# Altium integrated library Dallas Peripheral Memory Controller.IntLib: 58 symbols (part 1 of 2)
Pins are listed as number, name and electrical type; pins without a type are passive.

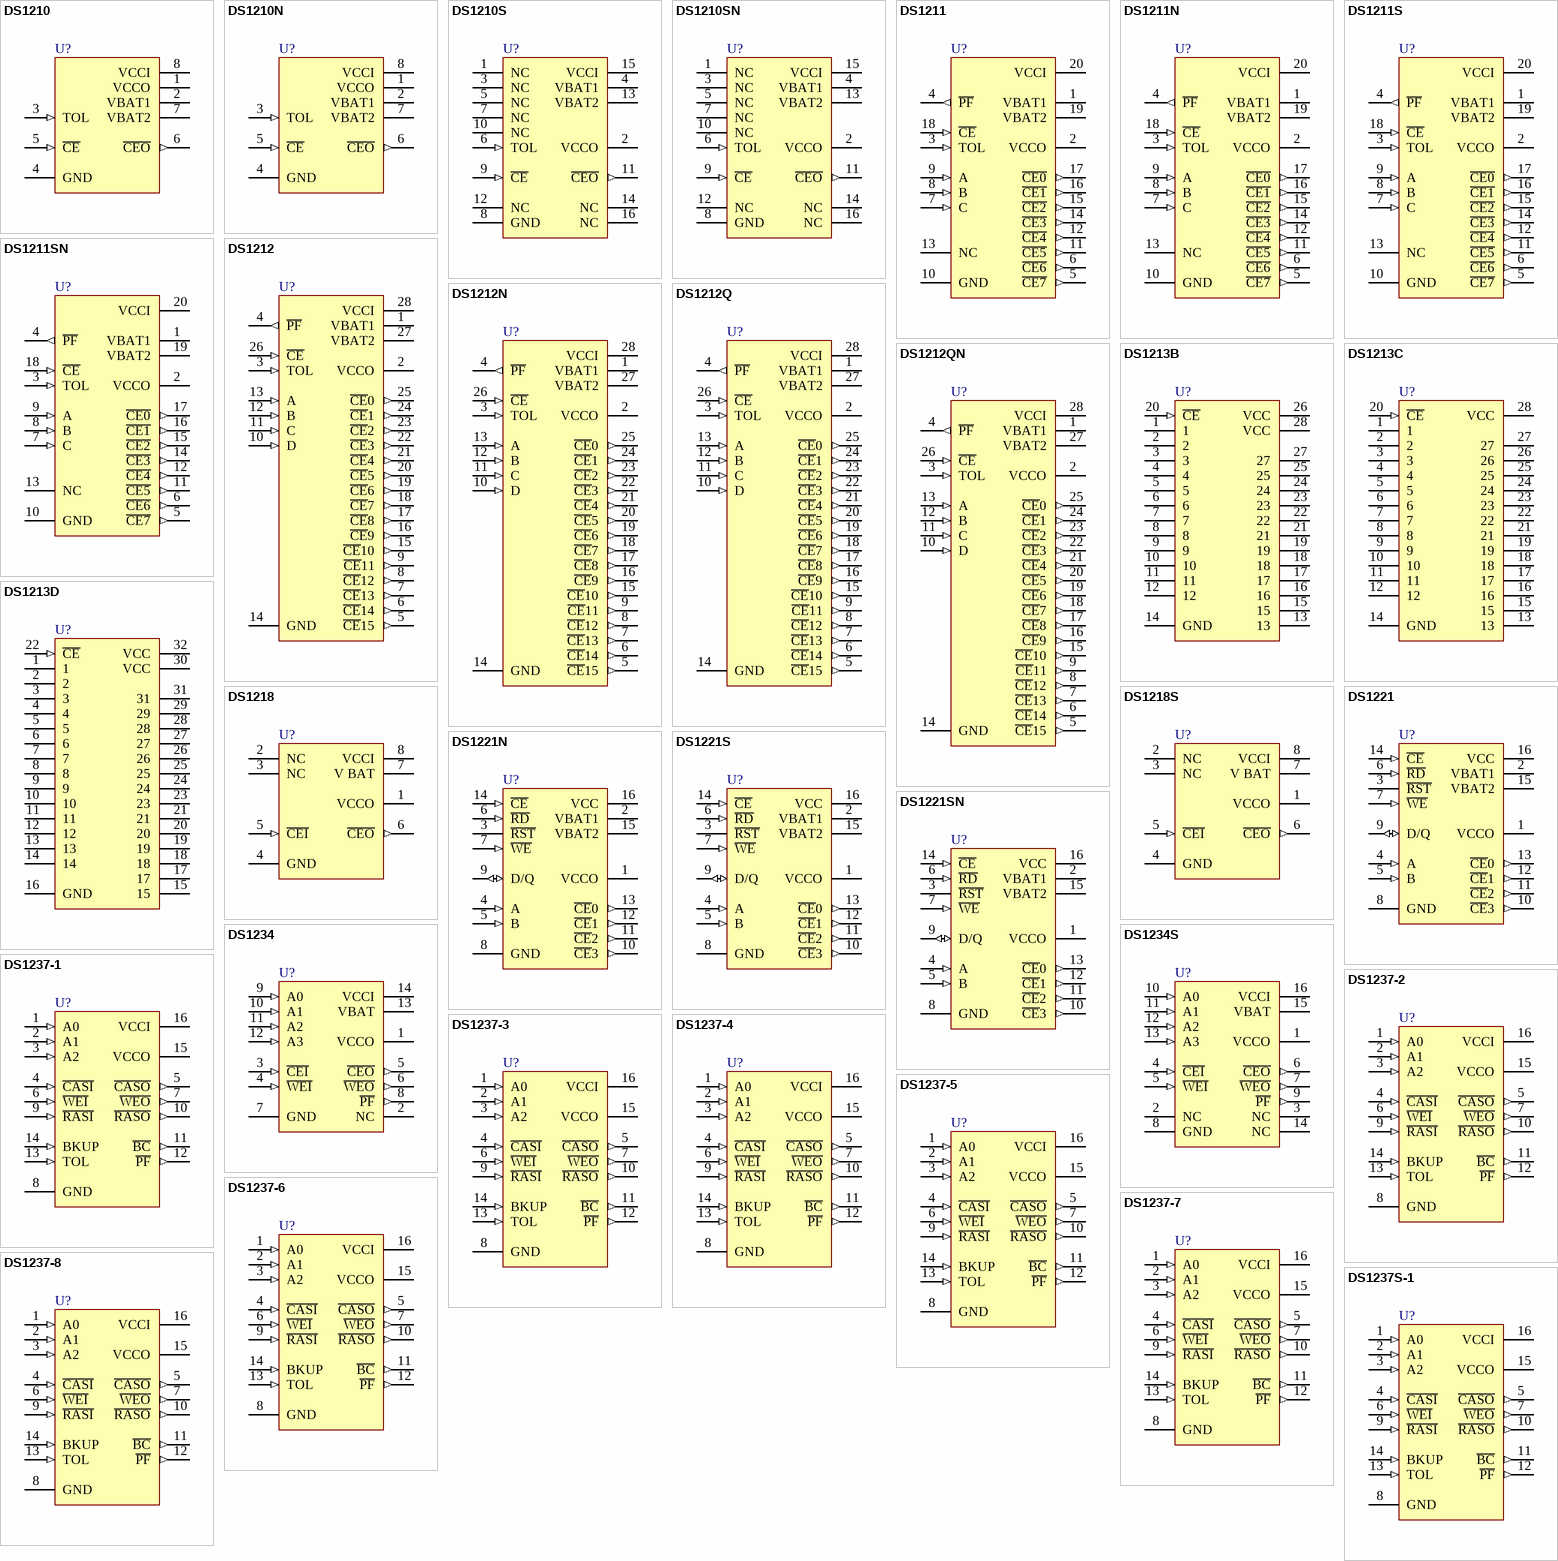
[diagram p0: symbols DS1210 to DS1237S-1]

## DS1210
designator U?
Nonvolatile Controller Chip; Published: 13-Oct-2000; LatestRevisionDate: 17-Jul-2002; LatestRevisionNote: Re-released for DXP Platform.; DatasheetVersion: 17-Feb-1998; PackageVersion: 1999; PackageReference: DIP8; Publisher: Altium Limited; PackageDescription: DIP, 8-Pin, Row Spacing 7.62 mm, Pitch 2.54 mm; ComponentLink1Description: Manufacturer Link; ComponentLink1URL: http://www.maxim-ic.com/; ComponentLink2Description: Datasheet; ComponentLink2URL: http://pdfserv.maxim-ic.com/en/ds/DS1210.pdf
footprint DIP8 (DIP, 8-Leads, Row Spacing 7.62mm, Pitch 2.54mm, Body 9.65x6.35mm)
pins: 1 VCCO (power), 2 VBAT1 (power), 3 TOL (in), 4 GND (power), 5 ~{CE} (in), 6 ~{CEO} (out), 7 VBAT2 (power), 8 VCCI (power)

## DS1210N
designator U?
Nonvolatile Controller Chip; Published: 13-Oct-2000; LatestRevisionDate: 17-Jul-2002; LatestRevisionNote: Re-released for DXP Platform.; DatasheetVersion: 17-Feb-1998; PackageVersion: 1999; PackageReference: DIP8; Publisher: Altium Limited; PackageDescription: DIP, 8-Pin, Row Spacing 7.62 mm, Pitch 2.54 mm; ComponentLink1Description: Manufacturer Link; ComponentLink1URL: http://www.maxim-ic.com/; ComponentLink2Description: Datasheet; ComponentLink2URL: http://pdfserv.maxim-ic.com/en/ds/DS1210.pdf
footprint DIP8 (DIP, 8-Leads, Row Spacing 7.62mm, Pitch 2.54mm, Body 9.65x6.35mm)
pins: 1 VCCO (power), 2 VBAT1 (power), 3 TOL (in), 4 GND (power), 5 ~{CE} (in), 6 ~{CEO} (out), 7 VBAT2 (power), 8 VCCI (power)

## DS1210S
designator U?
Nonvolatile Controller Chip; Note: Pin numbers 1, 3, 5, 7, 10, 12, 14 and 16 are Not Connected (NC); Published: 13-Oct-2000; LatestRevisionDate: 13-Apr-2006; LatestRevisionNote: IPC-7351 Footprint Added.; DatasheetVersion: 17-Feb-1998; PackageVersion: 1999; PackageReference: SOIC16W; Publisher: Altium Limited; PackageDescription: 16-Pin Small Outline Integrated Circuit 1.27 mm Pitch; ComponentLink1Description: Manufacturer Link; ComponentLink1URL: http://www.maxim-ic.com/; ComponentLink2Description: Datasheet; ComponentLink2URL: http://pdfserv.maxim-ic.com/en/ds/DS1210.pdf
footprint SOIC16W_N (SOIC, 16-Leads, Body 10.3x7.5mm, Pitch 1.27mm, IPC Medium Density)
footprint SOIC16W_L (SOIC, 16-Leads, Body 10.3x7.5mm, Pitch 1.27mm, IPC High Density)
footprint SOIC16W_M (SOIC, 16-Leads, Body 10.3x7.5mm, Pitch 1.27mm, IPC Low Density)
pins: 1 NC, 2 VCCO (power), 3 NC, 4 VBAT1 (power), 5 NC, 6 TOL (in), 7 NC, 8 GND (power), 9 ~{CE} (in), 10 NC, 11 ~{CEO} (out), 12 NC, 13 VBAT2 (power), 14 NC, 15 VCCI (power), 16 NC

## DS1210SN
designator U?
Nonvolatile Controller Chip; Note: Pin numbers 1, 3, 5, 7, 10, 12, 14 and 16 are Not Connected (NC); Published: 13-Oct-2000; LatestRevisionDate: 13-Apr-2006; LatestRevisionNote: IPC-7351 Footprint Added.; DatasheetVersion: 17-Feb-1998; PackageVersion: 1999; PackageReference: SOIC16W; Publisher: Altium Limited; PackageDescription: 16-Pin Small Outline Integrated Circuit 1.27 mm Pitch; ComponentLink1Description: Manufacturer Link; ComponentLink1URL: http://www.maxim-ic.com/; ComponentLink2Description: Datasheet; ComponentLink2URL: http://pdfserv.maxim-ic.com/en/ds/DS1210.pdf
footprint SOIC16W_N (SOIC, 16-Leads, Body 10.3x7.5mm, Pitch 1.27mm, IPC Medium Density)
footprint SOIC16W_L (SOIC, 16-Leads, Body 10.3x7.5mm, Pitch 1.27mm, IPC High Density)
footprint SOIC16W_M (SOIC, 16-Leads, Body 10.3x7.5mm, Pitch 1.27mm, IPC Low Density)
pins: 1 NC, 2 VCCO (power), 3 NC, 4 VBAT1 (power), 5 NC, 6 TOL (in), 7 NC, 8 GND (power), 9 ~{CE} (in), 10 NC, 11 ~{CEO} (out), 12 NC, 13 VBAT2 (power), 14 NC, 15 VCCI (power), 16 NC

## DS1211
designator U?
Nonvolatile Controller x 8 Chip; Note: Pin number 13 is Not Connected (NC); Published: 13-Oct-2000; LatestRevisionDate: 17-Jul-2002; LatestRevisionNote: Re-released for DXP Platform.; DatasheetVersion: 17-Feb-1998; PackageVersion: 1999; PackageReference: DIP20; Publisher: Altium Limited; PackageDescription: DIP, 20-Pin, Row Spacing 7.62 mm, Pitch 2.54 mm; Code_JEDEC: MS-001-AD; ComponentLink1Description: Manufacturer Link; ComponentLink1URL: http://www.maxim-ic.com/; ComponentLink2Description: Datasheet; ComponentLink2URL: http://pdfserv.maxim-ic.com/en/ds/DS1211.pdf
footprint DIP20 (DIP, 20-Leads, Row Spacing 7.62mm, Pitch 2.54mm, Body 25.53x6.48mm)
pins: 1 VBAT1 (power), 2 VCCO (power), 3 TOL (in), 4 ~{PF} (out), 5 ~{CE7} (out), 6 ~{CE6} (out), 7 C (in), 8 B (in), 9 A (in), 10 GND (power), 11 ~{CE5} (out), 12 ~{CE4} (out), 13 NC, 14 ~{CE3} (out), 15 ~{CE2} (out), 16 ~{CE1} (out), 17 ~{CE0} (out), 18 ~{CE} (in), 19 VBAT2 (power), 20 VCCI (power)

## DS1211N
designator U?
Nonvolatile Controller x 8 Chip; Note: Pin number 13 is Not Connected (NC); Published: 13-Oct-2000; LatestRevisionDate: 17-Jul-2002; LatestRevisionNote: Re-released for DXP Platform.; DatasheetVersion: 17-Feb-1998; PackageVersion: 1999; PackageReference: DIP20; Publisher: Altium Limited; PackageDescription: DIP, 20-Pin, Row Spacing 7.62 mm, Pitch 2.54 mm; Code_JEDEC: MS-001-AD; ComponentLink1Description: Manufacturer Link; ComponentLink1URL: http://www.maxim-ic.com/; ComponentLink2Description: Datasheet; ComponentLink2URL: http://pdfserv.maxim-ic.com/en/ds/DS1211.pdf
footprint DIP20 (DIP, 20-Leads, Row Spacing 7.62mm, Pitch 2.54mm, Body 25.53x6.48mm)
pins: 1 VBAT1 (power), 2 VCCO (power), 3 TOL (in), 4 ~{PF} (out), 5 ~{CE7} (out), 6 ~{CE6} (out), 7 C (in), 8 B (in), 9 A (in), 10 GND (power), 11 ~{CE5} (out), 12 ~{CE4} (out), 13 NC, 14 ~{CE3} (out), 15 ~{CE2} (out), 16 ~{CE1} (out), 17 ~{CE0} (out), 18 ~{CE} (in), 19 VBAT2 (power), 20 VCCI (power)

## DS1211S
designator U?
Nonvolatile Controller x 8 Chip; Note: Pin number 13 is Not Connected (NC); Published: 13-Oct-2000; LatestRevisionDate: 13-Apr-2006; LatestRevisionNote: IPC-7351 Footprint Added.; DatasheetVersion: 17-Feb-1998; PackageVersion: 1999; PackageReference: SOIC20; Publisher: Altium Limited; PackageDescription: 20-Pin Small Outline Integrated Circuit 1.27 mm Pitch; ComponentLink1Description: Manufacturer Link; ComponentLink1URL: http://www.maxim-ic.com/; ComponentLink2Description: Datasheet; ComponentLink2URL: http://pdfserv.maxim-ic.com/en/ds/DS1211.pdf
footprint SOIC20_N (SOIC, 20-Leads, Body 12.8x7.5mm, Pitch 1.27mm, IPC Medium Density)
footprint SOIC20_L (SOIC, 20-Leads, Body 12.8x7.5mm, Pitch 1.27mm, IPC High Density)
footprint SOIC20_M (SOIC, 20-Leads, Body 12.8x7.5mm, Pitch 1.27mm, IPC Low Density)
pins: 1 VBAT1 (power), 2 VCCO (power), 3 TOL (in), 4 ~{PF} (out), 5 ~{CE7} (out), 6 ~{CE6} (out), 7 C (in), 8 B (in), 9 A (in), 10 GND (power), 11 ~{CE5} (out), 12 ~{CE4} (out), 13 NC, 14 ~{CE3} (out), 15 ~{CE2} (out), 16 ~{CE1} (out), 17 ~{CE0} (out), 18 ~{CE} (in), 19 VBAT2 (power), 20 VCCI (power)

## DS1211SN
designator U?
Nonvolatile Controller x 8 Chip; Note: Pin number 13 is Not Connected (NC); Published: 13-Oct-2000; LatestRevisionDate: 13-Apr-2006; LatestRevisionNote: IPC-7351 Footprint Added.; DatasheetVersion: 17-Feb-1998; PackageVersion: 1999; PackageReference: SOIC20; Publisher: Altium Limited; PackageDescription: 20-Pin Small Outline Integrated Circuit 1.27 mm Pitch; ComponentLink1Description: Manufacturer Link; ComponentLink1URL: http://www.maxim-ic.com/; ComponentLink2Description: Datasheet; ComponentLink2URL: http://pdfserv.maxim-ic.com/en/ds/DS1211.pdf
footprint SOIC20_N (SOIC, 20-Leads, Body 12.8x7.5mm, Pitch 1.27mm, IPC Medium Density)
footprint SOIC20_L (SOIC, 20-Leads, Body 12.8x7.5mm, Pitch 1.27mm, IPC High Density)
footprint SOIC20_M (SOIC, 20-Leads, Body 12.8x7.5mm, Pitch 1.27mm, IPC Low Density)
pins: 1 VBAT1 (power), 2 VCCO (power), 3 TOL (in), 4 ~{PF} (out), 5 ~{CE7} (out), 6 ~{CE6} (out), 7 C (in), 8 B (in), 9 A (in), 10 GND (power), 11 ~{CE5} (out), 12 ~{CE4} (out), 13 NC, 14 ~{CE3} (out), 15 ~{CE2} (out), 16 ~{CE1} (out), 17 ~{CE0} (out), 18 ~{CE} (in), 19 VBAT2 (power), 20 VCCI (power)

## DS1212
designator U?
Nonvolatile Controller x 16 Chip; Published: 13-Oct-2000; LatestRevisionDate: 17-Jul-2002; LatestRevisionNote: Re-released for DXP Platform.; DatasheetVersion: 17-Feb-1998; PackageVersion: 1999; PackageReference: DIP28W; Publisher: Altium Limited; PackageDescription: DIP, 28-Pin, Row Spacing 15.24 mm, Pitch 2.54 mm; ComponentLink1Description: Manufacturer Link; ComponentLink1URL: http://www.maxim-ic.com/; ComponentLink2Description: Datasheet; ComponentLink2URL: http://pdfserv.maxim-ic.com/en/ds/DS1212.pdf
footprint DIP28W (DIP, 28-Leads, Row Spacing 15.24mm, Pitch 2.54mm, Body 37.02x13.72mm)
pins: 1 VBAT1 (power), 2 VCCO (power), 3 TOL (in), 4 ~{PF} (out), 5 ~{CE}15 (out), 6 ~{CE}14 (out), 7 ~{CE}13 (out), 8 ~{CE}12 (out), 9 ~{CE}11 (out), 10 D (in), 11 C (in), 12 B (in), 13 A (in), 14 GND (power), 15 ~{CE}10 (out), 16 ~{CE}9 (out), 17 ~{CE}8 (out), 18 ~{CE}7 (out), 19 ~{CE}6 (out), 20 ~{CE}5 (out), 21 ~{CE}4 (out), 22 ~{CE}3 (out), 23 ~{CE}2 (out), 24 ~{CE}1 (out), 25 ~{CE}0 (out), 26 ~{CE} (in), 27 VBAT2 (power), 28 VCCI (power)

## DS1212N
designator U?
Nonvolatile Controller x 16 Chip; Published: 13-Oct-2000; LatestRevisionDate: 17-Jul-2002; LatestRevisionNote: Re-released for DXP Platform.; DatasheetVersion: 17-Feb-1998; PackageVersion: 1999; PackageReference: DIP28W; Publisher: Altium Limited; PackageDescription: DIP, 28-Pin, Row Spacing 15.24 mm, Pitch 2.54 mm; ComponentLink1Description: Manufacturer Link; ComponentLink1URL: http://www.maxim-ic.com/; ComponentLink2Description: Datasheet; ComponentLink2URL: http://pdfserv.maxim-ic.com/en/ds/DS1212.pdf
footprint DIP28W (DIP, 28-Leads, Row Spacing 15.24mm, Pitch 2.54mm, Body 37.02x13.72mm)
pins: 1 VBAT1 (power), 2 VCCO (power), 3 TOL (in), 4 ~{PF} (out), 5 ~{CE}15 (out), 6 ~{CE}14 (out), 7 ~{CE}13 (out), 8 ~{CE}12 (out), 9 ~{CE}11 (out), 10 D (in), 11 C (in), 12 B (in), 13 A (in), 14 GND (power), 15 ~{CE}10 (out), 16 ~{CE}9 (out), 17 ~{CE}8 (out), 18 ~{CE}7 (out), 19 ~{CE}6 (out), 20 ~{CE}5 (out), 21 ~{CE}4 (out), 22 ~{CE}3 (out), 23 ~{CE}2 (out), 24 ~{CE}1 (out), 25 ~{CE}0 (out), 26 ~{CE} (in), 27 VBAT2 (power), 28 VCCI (power)

## DS1212Q
designator U?
Nonvolatile Controller x 16 Chip; Published: 13-Oct-2000; LatestRevisionDate: 13-Apr-2006; LatestRevisionNote: IPC-7351 Footprint Added.; DatasheetVersion: 17-Feb-1998; PackageVersion: Rev D, Feb-2006; PackageReference: PLCC28; Publisher: Altium Limited; PackageDescription: 28-Pin Leaded Chip Carrier 1.27 mm Pitch; Code_IPC: PLCC-28; ComponentLink1Description: Manufacturer Link; ComponentLink1URL: http://www.maxim-ic.com/; ComponentLink2Description: Datasheet; ComponentLink2URL: http://pdfserv.maxim-ic.com/en/ds/DS1212.pdf
footprint PLCC28_N (Leaded Chip Carrier, 28-Leads, Body 11.5x11.5mm, Pitch 1.27mm, IPC Medium Density)
footprint PLCC28_L (Leaded Chip Carrier, 28-Leads, Body 11.5x11.5mm, Pitch 1.27mm, IPC High Density)
footprint PLCC28_M (Leaded Chip Carrier, 28-Leads, Body 11.5x11.5mm, Pitch 1.27mm, IPC Low Density)
pins: 1 VBAT1 (power), 2 VCCO (power), 3 TOL (in), 4 ~{PF} (out), 5 ~{CE}15 (out), 6 ~{CE}14 (out), 7 ~{CE}13 (out), 8 ~{CE}12 (out), 9 ~{CE}11 (out), 10 D (in), 11 C (in), 12 B (in), 13 A (in), 14 GND (power), 15 ~{CE}10 (out), 16 ~{CE}9 (out), 17 ~{CE}8 (out), 18 ~{CE}7 (out), 19 ~{CE}6 (out), 20 ~{CE}5 (out), 21 ~{CE}4 (out), 22 ~{CE}3 (out), 23 ~{CE}2 (out), 24 ~{CE}1 (out), 25 ~{CE}0 (out), 26 ~{CE} (in), 27 VBAT2 (power), 28 VCCI (power)

## DS1212QN
designator U?
Nonvolatile Controller x 16 Chip; Published: 13-Oct-2000; LatestRevisionDate: 13-Apr-2006; LatestRevisionNote: IPC-7351 Footprint Added.; DatasheetVersion: 17-Feb-1998; PackageVersion: Rev D, Feb-2006; PackageReference: PLCC28; Publisher: Altium Limited; PackageDescription: 28-Pin Leaded Chip Carrier 1.27 mm Pitch; Code_IPC: PLCC-28; ComponentLink1Description: Manufacturer Link; ComponentLink1URL: http://www.maxim-ic.com/; ComponentLink2Description: Datasheet; ComponentLink2URL: http://pdfserv.maxim-ic.com/en/ds/DS1212.pdf
footprint PLCC28_N (Leaded Chip Carrier, 28-Leads, Body 11.5x11.5mm, Pitch 1.27mm, IPC Medium Density)
footprint PLCC28_L (Leaded Chip Carrier, 28-Leads, Body 11.5x11.5mm, Pitch 1.27mm, IPC High Density)
footprint PLCC28_M (Leaded Chip Carrier, 28-Leads, Body 11.5x11.5mm, Pitch 1.27mm, IPC Low Density)
pins: 1 VBAT1 (power), 2 VCCO (power), 3 TOL (in), 4 ~{PF} (out), 5 ~{CE}15 (out), 6 ~{CE}14 (out), 7 ~{CE}13 (out), 8 ~{CE}12 (out), 9 ~{CE}11 (out), 10 D (in), 11 C (in), 12 B (in), 13 A (in), 14 GND (power), 15 ~{CE}10 (out), 16 ~{CE}9 (out), 17 ~{CE}8 (out), 18 ~{CE}7 (out), 19 ~{CE}6 (out), 20 ~{CE}5 (out), 21 ~{CE}4 (out), 22 ~{CE}3 (out), 23 ~{CE}2 (out), 24 ~{CE}1 (out), 25 ~{CE}0 (out), 26 ~{CE} (in), 27 VBAT2 (power), 28 VCCI (power)

## DS1213B
designator U?
Smart-Socket 16K/64K; Published: 13-Oct-2000; LatestRevisionDate: 17-Jul-2002; LatestRevisionNote: Re-released for DXP Platform.; DatasheetVersion: 19-Mar-1998; PackageVersion: Oct-1998; PackageReference: ISDIP28; Publisher: Altium Limited; PackageDescription: DIP; 28 Rectangular Pins; Row Space 15.24 mm; Pitch 2.54 mm; ComponentLink1Description: Manufacturer Link; ComponentLink1URL: http://www.maxim-ic.com/; ComponentLink2Description: Datasheet; ComponentLink2URL: http://pdfserv.maxim-ic.com/en/ds/DS1213B.pdf; ComponentLink3Description: Discontinuation Notice; ComponentLink3URL: http://www.maxim-ic.com/qa/pdfs/non-obsolescence-letter.pdf
footprint ISDIP28 (DIP; 28 Rectangular Pins; Row Space 15.24 mm; Pitch 2.54 mm)
pins: 1, 2, 3, 4, 5, 6, 7, 8, 9, 10, 11, 12, 13, 14 GND (power), 15, 16, 17, 18, 19, 20 ~{CE} (in), 21, 22, 23, 24, 25, 26 VCC (power), 27, 28 VCC (power)

## DS1213C
designator U?
Smart-Socket 256K; Published: 13-Oct-2000; LatestRevisionDate: 17-Jul-2002; LatestRevisionNote: Re-released for DXP Platform.; DatasheetVersion: 22-Oct-1998; PackageVersion: Oct-1998; PackageReference: ISDIP28; Publisher: Altium Limited; PackageDescription: DIP; 28 Rectangular Pins; Row Space 15.24 mm; Pitch 2.54 mm; ComponentLink1Description: Manufacturer Link; ComponentLink1URL: http://www.maxim-ic.com/; ComponentLink2Description: Datasheet; ComponentLink2URL: http://pdfserv.maxim-ic.com/en/ds/DS1213C.pdf; ComponentLink3Description: Discontinuation Notice; ComponentLink3URL: http://www.maxim-ic.com/qa/pdfs/non-obsolescence-letter.pdf
footprint ISDIP28 (DIP; 28 Rectangular Pins; Row Space 15.24 mm; Pitch 2.54 mm)
pins: 1, 2, 3, 4, 5, 6, 7, 8, 9, 10, 11, 12, 13, 14 GND (power), 15, 16, 17, 18, 19, 20 ~{CE} (in), 21, 22, 23, 24, 25, 26, 27, 28 VCC (power)

## DS1213D
designator U?
Smart-Socket 256K/1M; Published: 13-Oct-2000; LatestRevisionDate: 17-Jul-2002; LatestRevisionNote: Re-released for DXP Platform.; DatasheetVersion: 19-Mar-1998; PackageVersion: Mar-1998; PackageReference: ISDIP32; Publisher: Altium Limited; PackageDescription: DIP; 32 Rectangular Pins; Row Space 15.24 mm; Pitch 2.54 mm; ComponentLink1Description: Manufacturer Link; ComponentLink1URL: http://www.maxim-ic.com/; ComponentLink2Description: Datasheet; ComponentLink2URL: http://pdfserv.maxim-ic.com/en/ds/DS1213D.pdf; ComponentLink3Description: Discontinuation Notice; ComponentLink3URL: http://www.maxim-ic.com/qa/pdfs/non-obsolescence-letter.pdf
footprint ISDIP32 (DIP; 32 Rectangular Pins; Row Space 15.24 mm; Pitch 2.54 mm)
pins: 1, 2, 3, 4, 5, 6, 7, 8, 9, 10, 11, 12, 13, 14, 15, 16 GND (power), 17, 18, 19, 20, 21, 22 ~{CE} (in), 23, 24, 25, 26, 27, 28, 29, 30 VCC (power), 31, 32 VCC (power)

## DS1218
designator U?
Nonvolatile Controller; Note: Pin numbers 2 and 3 are Not Connected (NC); Published: 13-Oct-2000; LatestRevisionDate: 17-Jul-2002; LatestRevisionNote: Re-released for DXP Platform.; DatasheetVersion: 17-Feb-1998; PackageVersion: 1999; PackageReference: DIP8; Publisher: Altium Limited; PackageDescription: DIP, 8-Pin, Row Spacing 7.62 mm, Pitch 2.54 mm; ComponentLink1Description: Manufacturer Link; ComponentLink1URL: http://www.maxim-ic.com/; ComponentLink2Description: Datasheet; ComponentLink2URL: http://pdfserv.maxim-ic.com/en/ds/DS1218.pdf
footprint DIP8 (DIP, 8-Leads, Row Spacing 7.62mm, Pitch 2.54mm, Body 9.65x6.35mm)
pins: 1 VCCO (power), 2 NC, 3 NC, 4 GND (power), 5 ~{CEI} (in), 6 ~{CEO} (out), 7 V BAT (power), 8 VCCI (power)

## DS1218S
designator U?
Nonvolatile Controller; Note: Pin numbers 2 and 3 are Not Connected (NC); Published: 13-Oct-2000; LatestRevisionDate: 13-Apr-2006; LatestRevisionNote: IPC-7351 Footprint Added.; DatasheetVersion: 17-Feb-1998; PackageVersion: 1999; PackageReference: SOIC8N; Publisher: Altium Limited; PackageDescription: 8-Pin Small Outline Integrated Circuit 1.27 mm Pitch; Code_IPC: SOIC127P600-8; ComponentLink1Description: Manufacturer Link; ComponentLink1URL: http://www.maxim-ic.com/; ComponentLink2Description: Datasheet; ComponentLink2URL: http://pdfserv.maxim-ic.com/en/ds/DS1218.pdf
footprint SOIC8N_N (SOIC, 8-Leads, Body 4.9x3.9mm, Pitch 1.27mm, IPC Medium Density)
footprint SOIC8N_L (SOIC, 8-Leads, Body 4.9x3.9mm, Pitch 1.27mm, IPC High Density)
footprint SOIC8N_M (SOIC, 8-Leads, Body 4.9x3.9mm, Pitch 1.27mm, IPC Low Density)
pins: 1 VCCO (power), 2 NC, 3 NC, 4 GND (power), 5 ~{CEI} (in), 6 ~{CEO} (out), 7 V BAT (power), 8 VCCI (power)

## DS1221
designator U?
Nonvolatile Controller x 4 Chip; Note: Pins 3, 6, 7 and 9 are used with optional security circuit only and must be connected to GND in all other cases.; Published: 13-Oct-2000; LatestRevisionDate: 17-Jul-2002; LatestRevisionNote: Re-released for DXP Platform.; DatasheetVersion: 25-Aug-1998; PackageVersion: 1999; PackageReference: DIP16; Publisher: Altium Limited; PackageDescription: DIP, 16-Pin, Row Spacing 7.62 mm, Pitch 2.54 mm; ComponentLink1Description: Manufacturer Link; ComponentLink1URL: http://www.maxim-ic.com/; ComponentLink2Description: Datasheet; ComponentLink2URL: http://pdfserv.maxim-ic.com/en/ds/DS1221.pdf
footprint DIP16 (DIP, 16-Leads, Row Spacing 7.62mm, Pitch 2.54mm, Body 19.31x6.35mm)
pins: 1 VCCO (power), 2 VBAT1 (power), 3 ~{RST}, 4 A (in), 5 B (in), 6 ~{RD} (in), 7 ~{WE} (in), 8 GND (power), 9 D/Q (io), 10 ~{CE}3 (out), 11 ~{CE}2 (out), 12 ~{CE}1 (out), 13 ~{CE}0 (out), 14 ~{CE} (in), 15 VBAT2 (power), 16 VCC (power)

## DS1221N
designator U?
Nonvolatile Controller x 4 Chip; Note: Pins 3, 6, 7 and 9 are used with optional security circuit only and must be connected to GND in all other cases.; Published: 13-Oct-2000; LatestRevisionDate: 17-Jul-2002; LatestRevisionNote: Re-released for DXP Platform.; DatasheetVersion: 25-Aug-1998; PackageVersion: 1999; PackageReference: DIP16; Publisher: Altium Limited; PackageDescription: DIP, 16-Pin, Row Spacing 7.62 mm, Pitch 2.54 mm; ComponentLink1Description: Manufacturer Link; ComponentLink1URL: http://www.maxim-ic.com/; ComponentLink2Description: Datasheet; ComponentLink2URL: http://pdfserv.maxim-ic.com/en/ds/DS1221.pdf
footprint DIP16 (DIP, 16-Leads, Row Spacing 7.62mm, Pitch 2.54mm, Body 19.31x6.35mm)
pins: 1 VCCO (power), 2 VBAT1 (power), 3 ~{RST}, 4 A (in), 5 B (in), 6 ~{RD} (in), 7 ~{WE} (in), 8 GND (power), 9 D/Q (io), 10 ~{CE}3 (out), 11 ~{CE}2 (out), 12 ~{CE}1 (out), 13 ~{CE}0 (out), 14 ~{CE} (in), 15 VBAT2 (power), 16 VCC (power)

## DS1221S
designator U?
Nonvolatile Controller x 4 Chip; Note: Pins 3, 6, 7 and 9 are used with optional security circuit only and must be connected to GND in all other cases.; Published: 13-Oct-2000; LatestRevisionDate: 13-Apr-2006; LatestRevisionNote: IPC-7351 Footprint Added.; DatasheetVersion: 25-Aug-1998; PackageVersion: 1999; PackageReference: SOIC16W; Publisher: Altium Limited; PackageDescription: 16-Pin Small Outline Integrated Circuit 1.27 mm Pitch; ComponentLink1Description: Manufacturer Link; ComponentLink1URL: http://www.maxim-ic.com/; ComponentLink2Description: Datasheet; ComponentLink2URL: http://pdfserv.maxim-ic.com/en/ds/DS1221.pdf
footprint SOIC16W_N (SOIC, 16-Leads, Body 10.3x7.5mm, Pitch 1.27mm, IPC Medium Density)
footprint SOIC16W_L (SOIC, 16-Leads, Body 10.3x7.5mm, Pitch 1.27mm, IPC High Density)
footprint SOIC16W_M (SOIC, 16-Leads, Body 10.3x7.5mm, Pitch 1.27mm, IPC Low Density)
pins: 1 VCCO (power), 2 VBAT1 (power), 3 ~{RST}, 4 A (in), 5 B (in), 6 ~{RD} (in), 7 ~{WE} (in), 8 GND (power), 9 D/Q (io), 10 ~{CE}3 (out), 11 ~{CE}2 (out), 12 ~{CE}1 (out), 13 ~{CE}0 (out), 14 ~{CE} (in), 15 VBAT2 (power), 16 VCC (power)

## DS1221SN
designator U?
Nonvolatile Controller x 4 Chip; Note: Pins 3, 6, 7 and 9 are used with optional security circuit only and must be connected to GND in all other cases.; Published: 13-Oct-2000; LatestRevisionDate: 13-Apr-2006; LatestRevisionNote: IPC-7351 Footprint Added.; DatasheetVersion: 25-Aug-1998; PackageVersion: 1999; PackageReference: SOIC16W; Publisher: Altium Limited; PackageDescription: 16-Pin Small Outline Integrated Circuit 1.27 mm Pitch; ComponentLink1Description: Manufacturer Link; ComponentLink1URL: http://www.maxim-ic.com/; ComponentLink2Description: Datasheet; ComponentLink2URL: http://pdfserv.maxim-ic.com/en/ds/DS1221.pdf
footprint SOIC16W_N (SOIC, 16-Leads, Body 10.3x7.5mm, Pitch 1.27mm, IPC Medium Density)
footprint SOIC16W_L (SOIC, 16-Leads, Body 10.3x7.5mm, Pitch 1.27mm, IPC High Density)
footprint SOIC16W_M (SOIC, 16-Leads, Body 10.3x7.5mm, Pitch 1.27mm, IPC Low Density)
pins: 1 VCCO (power), 2 VBAT1 (power), 3 ~{RST}, 4 A (in), 5 B (in), 6 ~{RD} (in), 7 ~{WE} (in), 8 GND (power), 9 D/Q (io), 10 ~{CE}3 (out), 11 ~{CE}2 (out), 12 ~{CE}1 (out), 13 ~{CE}0 (out), 14 ~{CE} (in), 15 VBAT2 (power), 16 VCC (power)

## DS1234
designator U?
Conditional Nonvolatile Controller Chip; Note: Pin number 2 is Not Connected (NC); Published: 13-Oct-2000; LatestRevisionDate: 17-Jul-2002; LatestRevisionNote: Re-released for DXP Platform.; DatasheetVersion: 17-Feb-1998; PackageVersion: 1999; PackageReference: DIP14; Publisher: Altium Limited; PackageDescription: DIP, 14-Pin, Row Spacing 7.62 mm, Pitch 2.54 mm; ComponentLink1Description: Manufacturer Link; ComponentLink1URL: http://www.maxim-ic.com/
footprint DIP14 (DIP, 14-Leads, Row Spacing 7.62mm, Pitch 2.54mm, Body 19.31x6.35mm)
pins: 1 VCCO (power), 2 NC, 3 ~{CEI} (in), 4 ~{WEI} (in), 5 ~{CEO} (out), 6 ~{WEO} (out), 7 GND (power), 8 ~{PF} (out), 9 A0 (in), 10 A1 (in), 11 A2 (in), 12 A3 (in), 13 VBAT (power), 14 VCCI (power)

## DS1234S
designator U?
Conditional Nonvolatile Controller Chip; Note: Pin numbers 2, 3 and 14 are Not Connected (NC); Published: 13-Oct-2000; LatestRevisionDate: 13-Apr-2006; LatestRevisionNote: IPC-7351 Footprint Added.; DatasheetVersion: 17-Feb-1998; PackageVersion: 1999; PackageReference: SOIC16W; Publisher: Altium Limited; PackageDescription: 16-Pin Small Outline Integrated Circuit 1.27 mm Pitch; ComponentLink1Description: Manufacturer Link; ComponentLink1URL: http://www.maxim-ic.com/
footprint SOIC16W_N (SOIC, 16-Leads, Body 10.3x7.5mm, Pitch 1.27mm, IPC Medium Density)
footprint SOIC16W_L (SOIC, 16-Leads, Body 10.3x7.5mm, Pitch 1.27mm, IPC High Density)
footprint SOIC16W_M (SOIC, 16-Leads, Body 10.3x7.5mm, Pitch 1.27mm, IPC Low Density)
pins: 1 VCCO (power), 2 NC, 3 NC, 4 ~{CEI} (in), 5 ~{WEI} (in), 6 ~{CEO} (out), 7 ~{WEO} (out), 8 GND (power), 9 ~{PF} (out), 10 A0 (in), 11 A1 (in), 12 A2 (in), 13 A3 (in), 14 NC, 15 VBAT (power), 16 VCCI (power)

## DS1237-1
designator U?
DRAM Nonvolatizer Chip; Published: 13-Oct-2000; LatestRevisionDate: 17-Jul-2002; LatestRevisionNote: Re-released for DXP Platform.; DatasheetVersion: 23-Jan-1992; PackageVersion: 1999; PackageReference: DIP16; Publisher: Altium Limited; PackageDescription: DIP, 16-Pin, Row Spacing 7.62 mm, Pitch 2.54 mm; ComponentLink1Description: Manufacturer Link; ComponentLink1URL: http://www.maxim-ic.com/; ComponentLink2Description: Datasheet; ComponentLink2URL: http://pdfserv.maxim-ic.com/en/ds/DS1233M.pdf
footprint DIP16 (DIP, 16-Leads, Row Spacing 7.62mm, Pitch 2.54mm, Body 19.31x6.35mm)
pins: 1 A0 (in), 2 A1 (in), 3 A2 (in), 4 ~{CASI} (in), 5 ~{CASO} (out), 6 ~{WEI} (in), 7 ~{WEO} (out), 8 GND (power), 9 ~{RASI} (in), 10 ~{RASO} (out), 11 ~{BC} (out), 12 ~{PF} (out), 13 TOL (in), 14 BKUP (in), 15 VCCO (power), 16 VCCI (power)

## DS1237-2
designator U?
DRAM Nonvolatizer Chip; Published: 13-Oct-2000; LatestRevisionDate: 17-Jul-2002; LatestRevisionNote: Re-released for DXP Platform.; DatasheetVersion: 23-Jan-1992; PackageVersion: 1999; PackageReference: DIP16; Publisher: Altium Limited; PackageDescription: DIP, 16-Pin, Row Spacing 7.62 mm, Pitch 2.54 mm; ComponentLink1Description: Manufacturer Link; ComponentLink1URL: http://www.maxim-ic.com/; ComponentLink2Description: Datasheet; ComponentLink2URL: http://pdfserv.maxim-ic.com/en/ds/DS1233M.pdf
footprint DIP16 (DIP, 16-Leads, Row Spacing 7.62mm, Pitch 2.54mm, Body 19.31x6.35mm)
pins: 1 A0 (in), 2 A1 (in), 3 A2 (in), 4 ~{CASI} (in), 5 ~{CASO} (out), 6 ~{WEI} (in), 7 ~{WEO} (out), 8 GND (power), 9 ~{RASI} (in), 10 ~{RASO} (out), 11 ~{BC} (out), 12 ~{PF} (out), 13 TOL (in), 14 BKUP (in), 15 VCCO (power), 16 VCCI (power)

## DS1237-3
designator U?
DRAM Nonvolatizer Chip; Published: 13-Oct-2000; LatestRevisionDate: 17-Jul-2002; LatestRevisionNote: Re-released for DXP Platform.; DatasheetVersion: 23-Jan-1992; PackageVersion: 1999; PackageReference: DIP16; Publisher: Altium Limited; PackageDescription: DIP, 16-Pin, Row Spacing 7.62 mm, Pitch 2.54 mm; ComponentLink1Description: Manufacturer Link; ComponentLink1URL: http://www.maxim-ic.com/; ComponentLink2Description: Datasheet; ComponentLink2URL: http://pdfserv.maxim-ic.com/en/ds/DS1233M.pdf
footprint DIP16 (DIP, 16-Leads, Row Spacing 7.62mm, Pitch 2.54mm, Body 19.31x6.35mm)
pins: 1 A0 (in), 2 A1 (in), 3 A2 (in), 4 ~{CASI} (in), 5 ~{CASO} (out), 6 ~{WEI} (in), 7 ~{WEO} (out), 8 GND (power), 9 ~{RASI} (in), 10 ~{RASO} (out), 11 ~{BC} (out), 12 ~{PF} (out), 13 TOL (in), 14 BKUP (in), 15 VCCO (power), 16 VCCI (power)

## DS1237-4
designator U?
DRAM Nonvolatizer Chip; Published: 13-Oct-2000; LatestRevisionDate: 17-Jul-2002; LatestRevisionNote: Re-released for DXP Platform.; DatasheetVersion: 23-Jan-1992; PackageVersion: 1999; PackageReference: DIP16; Publisher: Altium Limited; PackageDescription: DIP, 16-Pin, Row Spacing 7.62 mm, Pitch 2.54 mm; ComponentLink1Description: Manufacturer Link; ComponentLink1URL: http://www.maxim-ic.com/; ComponentLink2Description: Datasheet; ComponentLink2URL: http://pdfserv.maxim-ic.com/en/ds/DS1233M.pdf
footprint DIP16 (DIP, 16-Leads, Row Spacing 7.62mm, Pitch 2.54mm, Body 19.31x6.35mm)
pins: 1 A0 (in), 2 A1 (in), 3 A2 (in), 4 ~{CASI} (in), 5 ~{CASO} (out), 6 ~{WEI} (in), 7 ~{WEO} (out), 8 GND (power), 9 ~{RASI} (in), 10 ~{RASO} (out), 11 ~{BC} (out), 12 ~{PF} (out), 13 TOL (in), 14 BKUP (in), 15 VCCO (power), 16 VCCI (power)

## DS1237-5
designator U?
DRAM Nonvolatizer Chip; Published: 13-Oct-2000; LatestRevisionDate: 17-Jul-2002; LatestRevisionNote: Re-released for DXP Platform.; DatasheetVersion: 23-Jan-1992; PackageVersion: 1999; PackageReference: DIP16; Publisher: Altium Limited; PackageDescription: DIP, 16-Pin, Row Spacing 7.62 mm, Pitch 2.54 mm; ComponentLink1Description: Manufacturer Link; ComponentLink1URL: http://www.maxim-ic.com/; ComponentLink2Description: Datasheet; ComponentLink2URL: http://pdfserv.maxim-ic.com/en/ds/DS1233M.pdf
footprint DIP16 (DIP, 16-Leads, Row Spacing 7.62mm, Pitch 2.54mm, Body 19.31x6.35mm)
pins: 1 A0 (in), 2 A1 (in), 3 A2 (in), 4 ~{CASI} (in), 5 ~{CASO} (out), 6 ~{WEI} (in), 7 ~{WEO} (out), 8 GND (power), 9 ~{RASI} (in), 10 ~{RASO} (out), 11 ~{BC} (out), 12 ~{PF} (out), 13 TOL (in), 14 BKUP (in), 15 VCCO (power), 16 VCCI (power)

## DS1237-6
designator U?
DRAM Nonvolatizer Chip; Published: 13-Oct-2000; LatestRevisionDate: 17-Jul-2002; LatestRevisionNote: Re-released for DXP Platform.; DatasheetVersion: 23-Jan-1992; PackageVersion: 1999; PackageReference: DIP16; Publisher: Altium Limited; PackageDescription: DIP, 16-Pin, Row Spacing 7.62 mm, Pitch 2.54 mm; ComponentLink1Description: Manufacturer Link; ComponentLink1URL: http://www.maxim-ic.com/; ComponentLink2Description: Datasheet; ComponentLink2URL: http://pdfserv.maxim-ic.com/en/ds/DS1233M.pdf
footprint DIP16 (DIP, 16-Leads, Row Spacing 7.62mm, Pitch 2.54mm, Body 19.31x6.35mm)
pins: 1 A0 (in), 2 A1 (in), 3 A2 (in), 4 ~{CASI} (in), 5 ~{CASO} (out), 6 ~{WEI} (in), 7 ~{WEO} (out), 8 GND (power), 9 ~{RASI} (in), 10 ~{RASO} (out), 11 ~{BC} (out), 12 ~{PF} (out), 13 TOL (in), 14 BKUP (in), 15 VCCO (power), 16 VCCI (power)

## DS1237-7
designator U?
DRAM Nonvolatizer Chip; Published: 13-Oct-2000; LatestRevisionDate: 17-Jul-2002; LatestRevisionNote: Re-released for DXP Platform.; DatasheetVersion: 23-Jan-1992; PackageVersion: 1999; PackageReference: DIP16; Publisher: Altium Limited; PackageDescription: DIP, 16-Pin, Row Spacing 7.62 mm, Pitch 2.54 mm; ComponentLink1Description: Manufacturer Link; ComponentLink1URL: http://www.maxim-ic.com/; ComponentLink2Description: Datasheet; ComponentLink2URL: http://pdfserv.maxim-ic.com/en/ds/DS1233M.pdf
footprint DIP16 (DIP, 16-Leads, Row Spacing 7.62mm, Pitch 2.54mm, Body 19.31x6.35mm)
pins: 1 A0 (in), 2 A1 (in), 3 A2 (in), 4 ~{CASI} (in), 5 ~{CASO} (out), 6 ~{WEI} (in), 7 ~{WEO} (out), 8 GND (power), 9 ~{RASI} (in), 10 ~{RASO} (out), 11 ~{BC} (out), 12 ~{PF} (out), 13 TOL (in), 14 BKUP (in), 15 VCCO (power), 16 VCCI (power)

## DS1237-8
designator U?
DRAM Nonvolatizer Chip; Published: 13-Oct-2000; LatestRevisionDate: 17-Jul-2002; LatestRevisionNote: Re-released for DXP Platform.; DatasheetVersion: 23-Jan-1992; PackageVersion: 1999; PackageReference: DIP16; Publisher: Altium Limited; PackageDescription: DIP, 16-Pin, Row Spacing 7.62 mm, Pitch 2.54 mm; ComponentLink1Description: Manufacturer Link; ComponentLink1URL: http://www.maxim-ic.com/; ComponentLink2Description: Datasheet; ComponentLink2URL: http://pdfserv.maxim-ic.com/en/ds/DS1233M.pdf
footprint DIP16 (DIP, 16-Leads, Row Spacing 7.62mm, Pitch 2.54mm, Body 19.31x6.35mm)
pins: 1 A0 (in), 2 A1 (in), 3 A2 (in), 4 ~{CASI} (in), 5 ~{CASO} (out), 6 ~{WEI} (in), 7 ~{WEO} (out), 8 GND (power), 9 ~{RASI} (in), 10 ~{RASO} (out), 11 ~{BC} (out), 12 ~{PF} (out), 13 TOL (in), 14 BKUP (in), 15 VCCO (power), 16 VCCI (power)

## DS1237S-1
designator U?
DRAM Nonvolatizer Chip; Published: 13-Oct-2000; LatestRevisionDate: 13-Apr-2006; LatestRevisionNote: IPC-7351 Footprint Added.; DatasheetVersion: 23-Jan-1992; PackageVersion: 1999; PackageReference: SOIC16W; Publisher: Altium Limited; PackageDescription: 16-Pin Small Outline Integrated Circuit 1.27 mm Pitch; ComponentLink1Description: Manufacturer Link; ComponentLink1URL: http://www.maxim-ic.com/; ComponentLink2Description: Datasheet; ComponentLink2URL: http://pdfserv.maxim-ic.com/en/ds/DS1233M.pdf
footprint SOIC16W_N (SOIC, 16-Leads, Body 10.3x7.5mm, Pitch 1.27mm, IPC Medium Density)
footprint SOIC16W_L (SOIC, 16-Leads, Body 10.3x7.5mm, Pitch 1.27mm, IPC High Density)
footprint SOIC16W_M (SOIC, 16-Leads, Body 10.3x7.5mm, Pitch 1.27mm, IPC Low Density)
pins: 1 A0 (in), 2 A1 (in), 3 A2 (in), 4 ~{CASI} (in), 5 ~{CASO} (out), 6 ~{WEI} (in), 7 ~{WEO} (out), 8 GND (power), 9 ~{RASI} (in), 10 ~{RASO} (out), 11 ~{BC} (out), 12 ~{PF} (out), 13 TOL (in), 14 BKUP (in), 15 VCCO (power), 16 VCCI (power)

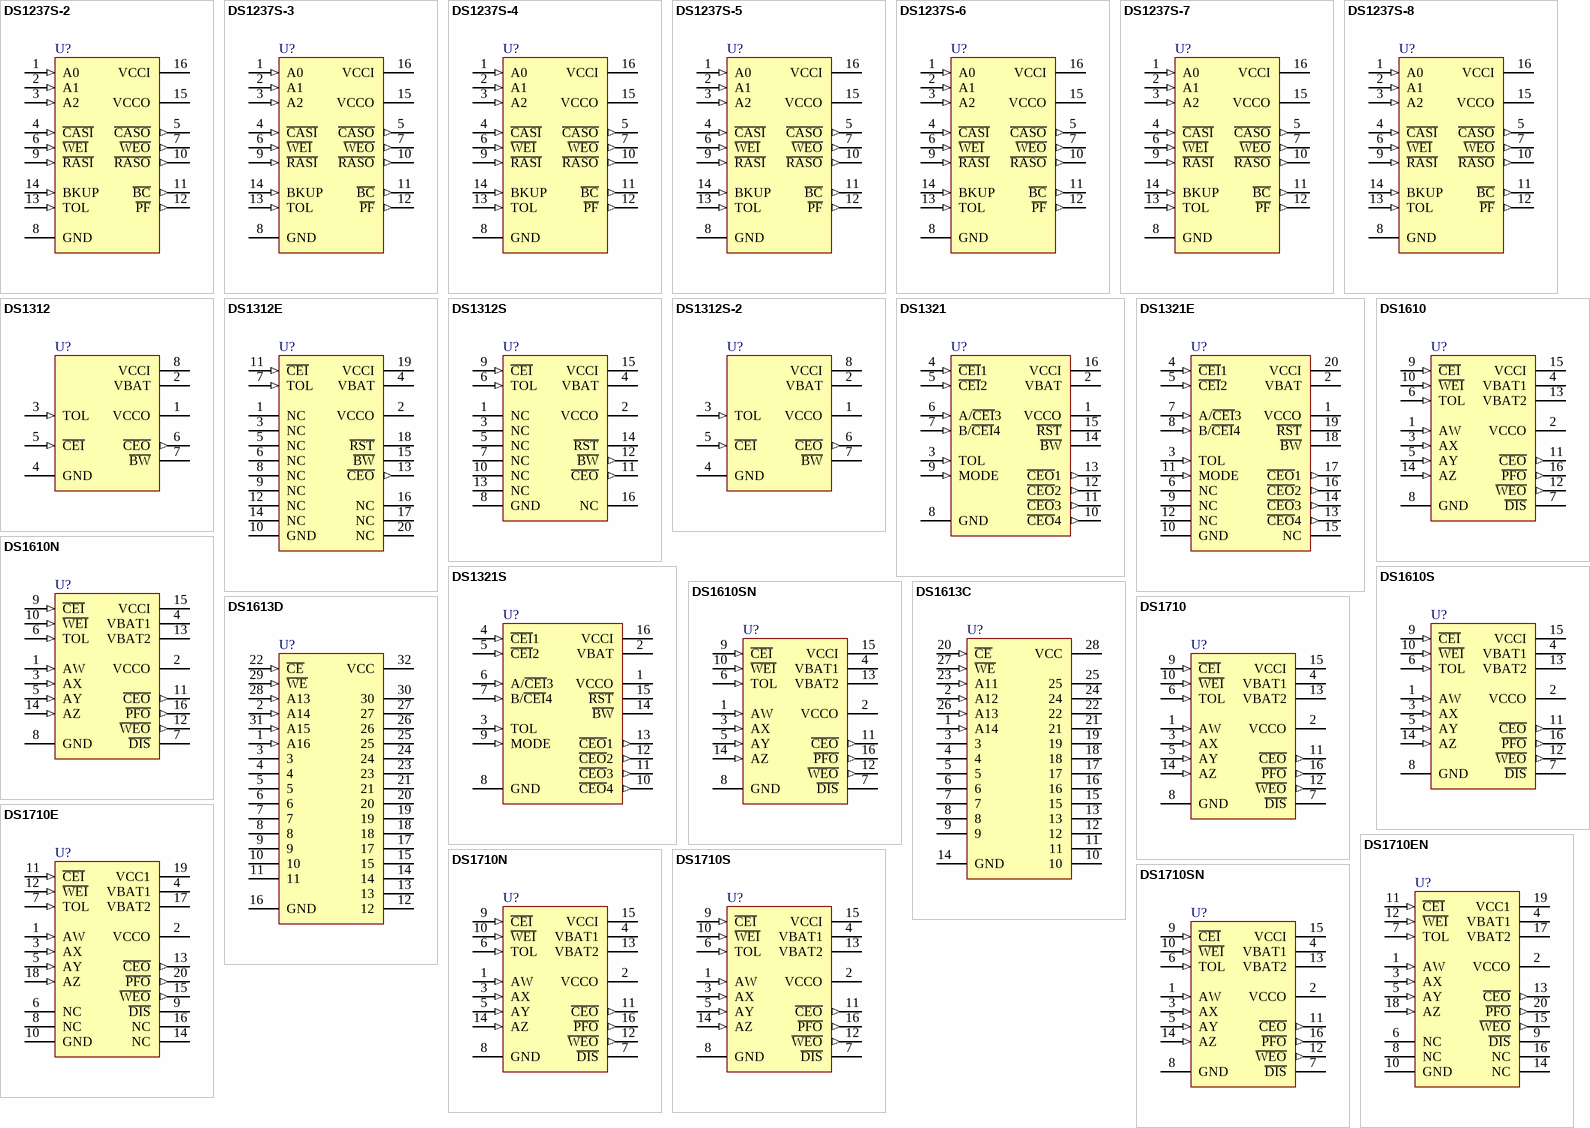
[diagram p1: symbols DS1237S-2 to DS1710SN]

## DS1237S-2
designator U?
DRAM Nonvolatizer Chip; Published: 13-Oct-2000; LatestRevisionDate: 13-Apr-2006; LatestRevisionNote: IPC-7351 Footprint Added.; DatasheetVersion: 23-Jan-1992; PackageVersion: 1999; PackageReference: SOIC16W; Publisher: Altium Limited; PackageDescription: 16-Pin Small Outline Integrated Circuit 1.27 mm Pitch; ComponentLink1Description: Manufacturer Link; ComponentLink1URL: http://www.maxim-ic.com/; ComponentLink2Description: Datasheet; ComponentLink2URL: http://pdfserv.maxim-ic.com/en/ds/DS1233M.pdf
footprint SOIC16W_N (SOIC, 16-Leads, Body 10.3x7.5mm, Pitch 1.27mm, IPC Medium Density)
footprint SOIC16W_L (SOIC, 16-Leads, Body 10.3x7.5mm, Pitch 1.27mm, IPC High Density)
footprint SOIC16W_M (SOIC, 16-Leads, Body 10.3x7.5mm, Pitch 1.27mm, IPC Low Density)
pins: 1 A0 (in), 2 A1 (in), 3 A2 (in), 4 ~{CASI} (in), 5 ~{CASO} (out), 6 ~{WEI} (in), 7 ~{WEO} (out), 8 GND (power), 9 ~{RASI} (in), 10 ~{RASO} (out), 11 ~{BC} (out), 12 ~{PF} (out), 13 TOL (in), 14 BKUP (in), 15 VCCO (power), 16 VCCI (power)

## DS1237S-3
designator U?
DRAM Nonvolatizer Chip; Published: 13-Oct-2000; LatestRevisionDate: 13-Apr-2006; LatestRevisionNote: IPC-7351 Footprint Added.; DatasheetVersion: 23-Jan-1992; PackageVersion: 1999; PackageReference: SOIC16W; Publisher: Altium Limited; PackageDescription: 16-Pin Small Outline Integrated Circuit 1.27 mm Pitch; ComponentLink1Description: Manufacturer Link; ComponentLink1URL: http://www.maxim-ic.com/; ComponentLink2Description: Datasheet; ComponentLink2URL: http://pdfserv.maxim-ic.com/en/ds/DS1233M.pdf
footprint SOIC16W_N (SOIC, 16-Leads, Body 10.3x7.5mm, Pitch 1.27mm, IPC Medium Density)
footprint SOIC16W_L (SOIC, 16-Leads, Body 10.3x7.5mm, Pitch 1.27mm, IPC High Density)
footprint SOIC16W_M (SOIC, 16-Leads, Body 10.3x7.5mm, Pitch 1.27mm, IPC Low Density)
pins: 1 A0 (in), 2 A1 (in), 3 A2 (in), 4 ~{CASI} (in), 5 ~{CASO} (out), 6 ~{WEI} (in), 7 ~{WEO} (out), 8 GND (power), 9 ~{RASI} (in), 10 ~{RASO} (out), 11 ~{BC} (out), 12 ~{PF} (out), 13 TOL (in), 14 BKUP (in), 15 VCCO (power), 16 VCCI (power)

## DS1237S-4
designator U?
DRAM Nonvolatizer Chip; Published: 13-Oct-2000; LatestRevisionDate: 13-Apr-2006; LatestRevisionNote: IPC-7351 Footprint Added.; DatasheetVersion: 23-Jan-1992; PackageVersion: 1999; PackageReference: SOIC16W; Publisher: Altium Limited; PackageDescription: 16-Pin Small Outline Integrated Circuit 1.27 mm Pitch; ComponentLink1Description: Manufacturer Link; ComponentLink1URL: http://www.maxim-ic.com/; ComponentLink2Description: Datasheet; ComponentLink2URL: http://pdfserv.maxim-ic.com/en/ds/DS1233M.pdf
footprint SOIC16W_N (SOIC, 16-Leads, Body 10.3x7.5mm, Pitch 1.27mm, IPC Medium Density)
footprint SOIC16W_L (SOIC, 16-Leads, Body 10.3x7.5mm, Pitch 1.27mm, IPC High Density)
footprint SOIC16W_M (SOIC, 16-Leads, Body 10.3x7.5mm, Pitch 1.27mm, IPC Low Density)
pins: 1 A0 (in), 2 A1 (in), 3 A2 (in), 4 ~{CASI} (in), 5 ~{CASO} (out), 6 ~{WEI} (in), 7 ~{WEO} (out), 8 GND (power), 9 ~{RASI} (in), 10 ~{RASO} (out), 11 ~{BC} (out), 12 ~{PF} (out), 13 TOL (in), 14 BKUP (in), 15 VCCO (power), 16 VCCI (power)

## DS1237S-5
designator U?
DRAM Nonvolatizer Chip; Published: 13-Oct-2000; LatestRevisionDate: 13-Apr-2006; LatestRevisionNote: IPC-7351 Footprint Added.; DatasheetVersion: 23-Jan-1992; PackageVersion: 1999; PackageReference: SOIC16W; Publisher: Altium Limited; PackageDescription: 16-Pin Small Outline Integrated Circuit 1.27 mm Pitch; ComponentLink1Description: Manufacturer Link; ComponentLink1URL: http://www.maxim-ic.com/; ComponentLink2Description: Datasheet; ComponentLink2URL: http://pdfserv.maxim-ic.com/en/ds/DS1233M.pdf
footprint SOIC16W_N (SOIC, 16-Leads, Body 10.3x7.5mm, Pitch 1.27mm, IPC Medium Density)
footprint SOIC16W_L (SOIC, 16-Leads, Body 10.3x7.5mm, Pitch 1.27mm, IPC High Density)
footprint SOIC16W_M (SOIC, 16-Leads, Body 10.3x7.5mm, Pitch 1.27mm, IPC Low Density)
pins: 1 A0 (in), 2 A1 (in), 3 A2 (in), 4 ~{CASI} (in), 5 ~{CASO} (out), 6 ~{WEI} (in), 7 ~{WEO} (out), 8 GND (power), 9 ~{RASI} (in), 10 ~{RASO} (out), 11 ~{BC} (out), 12 ~{PF} (out), 13 TOL (in), 14 BKUP (in), 15 VCCO (power), 16 VCCI (power)

## DS1237S-6
designator U?
DRAM Nonvolatizer Chip; Published: 13-Oct-2000; LatestRevisionDate: 13-Apr-2006; LatestRevisionNote: IPC-7351 Footprint Added.; DatasheetVersion: 23-Jan-1992; PackageVersion: 1999; PackageReference: SOIC16W; Publisher: Altium Limited; PackageDescription: 16-Pin Small Outline Integrated Circuit 1.27 mm Pitch; ComponentLink1Description: Manufacturer Link; ComponentLink1URL: http://www.maxim-ic.com/; ComponentLink2Description: Datasheet; ComponentLink2URL: http://pdfserv.maxim-ic.com/en/ds/DS1233M.pdf
footprint SOIC16W_N (SOIC, 16-Leads, Body 10.3x7.5mm, Pitch 1.27mm, IPC Medium Density)
footprint SOIC16W_L (SOIC, 16-Leads, Body 10.3x7.5mm, Pitch 1.27mm, IPC High Density)
footprint SOIC16W_M (SOIC, 16-Leads, Body 10.3x7.5mm, Pitch 1.27mm, IPC Low Density)
pins: 1 A0 (in), 2 A1 (in), 3 A2 (in), 4 ~{CASI} (in), 5 ~{CASO} (out), 6 ~{WEI} (in), 7 ~{WEO} (out), 8 GND (power), 9 ~{RASI} (in), 10 ~{RASO} (out), 11 ~{BC} (out), 12 ~{PF} (out), 13 TOL (in), 14 BKUP (in), 15 VCCO (power), 16 VCCI (power)

## DS1237S-7
designator U?
DRAM Nonvolatizer Chip; Published: 13-Oct-2000; LatestRevisionDate: 13-Apr-2006; LatestRevisionNote: IPC-7351 Footprint Added.; DatasheetVersion: 23-Jan-1992; PackageVersion: 1999; PackageReference: SOIC16W; Publisher: Altium Limited; PackageDescription: 16-Pin Small Outline Integrated Circuit 1.27 mm Pitch; ComponentLink1Description: Manufacturer Link; ComponentLink1URL: http://www.maxim-ic.com/; ComponentLink2Description: Datasheet; ComponentLink2URL: http://pdfserv.maxim-ic.com/en/ds/DS1233M.pdf
footprint SOIC16W_N (SOIC, 16-Leads, Body 10.3x7.5mm, Pitch 1.27mm, IPC Medium Density)
footprint SOIC16W_L (SOIC, 16-Leads, Body 10.3x7.5mm, Pitch 1.27mm, IPC High Density)
footprint SOIC16W_M (SOIC, 16-Leads, Body 10.3x7.5mm, Pitch 1.27mm, IPC Low Density)
pins: 1 A0 (in), 2 A1 (in), 3 A2 (in), 4 ~{CASI} (in), 5 ~{CASO} (out), 6 ~{WEI} (in), 7 ~{WEO} (out), 8 GND (power), 9 ~{RASI} (in), 10 ~{RASO} (out), 11 ~{BC} (out), 12 ~{PF} (out), 13 TOL (in), 14 BKUP (in), 15 VCCO (power), 16 VCCI (power)

## DS1237S-8
designator U?
DRAM Nonvolatizer Chip; Published: 13-Oct-2000; LatestRevisionDate: 13-Apr-2006; LatestRevisionNote: IPC-7351 Footprint Added.; DatasheetVersion: 23-Jan-1992; PackageVersion: 1999; PackageReference: SOIC16W; Publisher: Altium Limited; PackageDescription: 16-Pin Small Outline Integrated Circuit 1.27 mm Pitch; ComponentLink1Description: Manufacturer Link; ComponentLink1URL: http://www.maxim-ic.com/
footprint SOIC16W_N (SOIC, 16-Leads, Body 10.3x7.5mm, Pitch 1.27mm, IPC Medium Density)
footprint SOIC16W_L (SOIC, 16-Leads, Body 10.3x7.5mm, Pitch 1.27mm, IPC High Density)
footprint SOIC16W_M (SOIC, 16-Leads, Body 10.3x7.5mm, Pitch 1.27mm, IPC Low Density)
pins: 1 A0 (in), 2 A1 (in), 3 A2 (in), 4 ~{CASI} (in), 5 ~{CASO} (out), 6 ~{WEI} (in), 7 ~{WEO} (out), 8 GND (power), 9 ~{RASI} (in), 10 ~{RASO} (out), 11 ~{BC} (out), 12 ~{PF} (out), 13 TOL (in), 14 BKUP (in), 15 VCCO (power), 16 VCCI (power)

## DS1312
designator U?
Nonvolatile Controller with Lithium Battery Monitor; Published: 13-Oct-2000; LatestRevisionDate: 17-Jul-2002; LatestRevisionNote: Re-released for DXP Platform.; DatasheetVersion: 25-Feb-1998; PackageVersion: 1999; PackageReference: DIP8; Publisher: Altium Limited; PackageDescription: DIP, 8-Pin, Row Spacing 7.62 mm, Pitch 2.54 mm; ComponentLink1Description: Manufacturer Link; ComponentLink1URL: http://www.maxim-ic.com/; ComponentLink2Description: Datasheet; ComponentLink2URL: http://pdfserv.maxim-ic.com/en/ds/DS1312.pdf
footprint DIP8 (DIP, 8-Leads, Row Spacing 7.62mm, Pitch 2.54mm, Body 9.65x6.35mm)
pins: 1 VCCO (power), 2 VBAT (power), 3 TOL (in), 4 GND (power), 5 ~{CEI} (in), 6 ~{CEO} (out), 7 ~{BW} (oc), 8 VCCI (power)

## DS1312E
designator U?
Nonvolatile Controller with Lithium Battery Monitor; Note: Pin numbers 1, 3, 5, 6, 8, 9, 12, 14, 16, 17 and 20 are Not Connected (NC); Published: 13-Oct-2000; LatestRevisionDate: 20-Nov-2009; LatestRevisionNote: IPC-7351 Footprint Added.; DatasheetVersion: 25-Feb-1998; PackageReference: TSSOP20; Publisher: Altium Limited; PackageDescription: 20-Pin Thin Small Outline Package 0.65 mm Pitch; ComponentLink1Description: Manufacturer Link; ComponentLink1URL: http://www.maxim-ic.com/; ComponentLink2Description: Datasheet; ComponentLink2URL: http://pdfserv.maxim-ic.com/en/ds/DS1312.pdf
footprint TSSOP20_N (TSOP, 20-Leads, Body 6.5x4.4mm, Pitch 0.65mm, IPC Medium Density)
footprint TSSOP20_L (TSOP, 20-Leads, Body 6.5x4.4mm, Pitch 0.65mm, IPC High Density)
footprint TSSOP20_M (TSOP, 20-Leads, Body 6.5x4.4mm, Pitch 0.65mm, IPC Low Density)
pins: 1 NC, 2 VCCO (power), 3 NC, 4 VBAT (power), 5 NC, 6 NC, 7 TOL (in), 8 NC, 9 NC, 10 GND (power), 11 ~{CEI} (in), 12 NC, 13 ~{CEO} (out), 14 NC, 15 ~{BW} (oc), 16 NC, 17 NC, 18 ~{RST} (oc), 19 VCCI (power), 20 NC

## DS1312S
designator U?
Nonvolatile Controller with Lithium Battery Monitor; Note: Pin numbers 1, 3, 5, 7, 10, 13 and 16 are Not Connected (NC); Published: 13-Oct-2000; LatestRevisionDate: 13-Apr-2006; LatestRevisionNote: IPC-7351 Footprint Added.; DatasheetVersion: 25-Feb-1998; PackageVersion: 1999; PackageReference: SOIC16W; Publisher: Altium Limited; PackageDescription: 16-Pin Small Outline Integrated Circuit 1.27 mm Pitch; ComponentLink1Description: Manufacturer Link; ComponentLink1URL: http://www.maxim-ic.com/; ComponentLink2Description: Datasheet; ComponentLink2URL: http://pdfserv.maxim-ic.com/en/ds/DS1312.pdf
footprint SOIC16W_N (SOIC, 16-Leads, Body 10.3x7.5mm, Pitch 1.27mm, IPC Medium Density)
footprint SOIC16W_L (SOIC, 16-Leads, Body 10.3x7.5mm, Pitch 1.27mm, IPC High Density)
footprint SOIC16W_M (SOIC, 16-Leads, Body 10.3x7.5mm, Pitch 1.27mm, IPC Low Density)
pins: 1 NC, 2 VCCO (power), 3 NC, 4 VBAT (power), 5 NC, 6 TOL (in), 7 NC, 8 GND (power), 9 ~{CEI} (in), 10 NC, 11 ~{CEO} (out), 12 ~{BW} (out), 13 NC, 14 ~{RST} (oc), 15 VCCI (power), 16 NC

## DS1312S-2
designator U?
Nonvolatile Controller with Lithium Battery Monitor; Published: 13-Oct-2000; LatestRevisionDate: 13-Apr-2006; LatestRevisionNote: IPC-7351 Footprint Added.; DatasheetVersion: 25-Feb-1998; PackageVersion: 1999; PackageReference: SOIC8N; Publisher: Altium Limited; PackageDescription: 8-Pin Small Outline Integrated Circuit 1.27 mm Pitch; Code_IPC: SOIC127P600-8; ComponentLink1Description: Manufacturer Link; ComponentLink1URL: http://www.maxim-ic.com/; ComponentLink2Description: Datasheet; ComponentLink2URL: http://pdfserv.maxim-ic.com/en/ds/DS1312.pdf
footprint SOIC8N_N (SOIC, 8-Leads, Body 4.9x3.9mm, Pitch 1.27mm, IPC Medium Density)
footprint SOIC8N_L (SOIC, 8-Leads, Body 4.9x3.9mm, Pitch 1.27mm, IPC High Density)
footprint SOIC8N_M (SOIC, 8-Leads, Body 4.9x3.9mm, Pitch 1.27mm, IPC Low Density)
pins: 1 VCCO (power), 2 VBAT (power), 3 TOL (in), 4 GND (power), 5 ~{CEI} (in), 6 ~{CEO} (out), 7 ~{BW} (oc), 8 VCCI (power)

## DS1321
designator U?
Flexible Nonvolatile Controller with Lithium Battery Monitor; Published: 13-Oct-2000; LatestRevisionDate: 17-Jul-2002; LatestRevisionNote: Re-released for DXP Platform.; DatasheetVersion: 25-Feb-1998; PackageVersion: 1999; PackageReference: DIP16; Publisher: Altium Limited; PackageDescription: DIP, 16-Pin, Row Spacing 7.62 mm, Pitch 2.54 mm; ComponentLink1Description: Manufacturer Link; ComponentLink1URL: http://www.maxim-ic.com/; ComponentLink2Description: Datasheet; ComponentLink2URL: http://pdfserv.maxim-ic.com/en/ds/DS1321.pdf
footprint DIP16 (DIP, 16-Leads, Row Spacing 7.62mm, Pitch 2.54mm, Body 19.31x6.35mm)
pins: 1 VCCO (power), 2 VBAT (power), 3 TOL (in), 4 ~{CEI}1 (in), 5 ~{CEI}2 (in), 6 A/~{CEI}3 (in), 7 B/~{CEI}4 (in), 8 GND (power), 9 MODE (in), 10 ~{CEO}4 (out), 11 ~{CEO}3 (out), 12 ~{CEO}2 (out), 13 ~{CEO}1 (out), 14 ~{BW} (oc), 15 ~{RST} (oc), 16 VCCI (power)

## DS1321E
designator U?
Flexible Nonvolatile Controller with Lithium Battery Monitor; Note: Pin numbers 6, 9, 12 and 15 are Not Connected (NC); Published: 13-Oct-2000; LatestRevisionDate: 20-Nov-2009; LatestRevisionNote: IPC-7351 Footprint Added.; DatasheetVersion: 25-Feb-1998; PackageReference: TSSOP20; Publisher: Altium Limited; PackageDescription: 20-Pin Thin Small Outline Package 0.65 mm Pitch; ComponentLink1Description: Manufacturer Link; ComponentLink1URL: http://www.maxim-ic.com/; ComponentLink2Description: Datasheet; ComponentLink2URL: http://pdfserv.maxim-ic.com/en/ds/DS1321.pdf
footprint TSSOP20_N (TSOP, 20-Leads, Body 6.5x4.4mm, Pitch 0.65mm, IPC Medium Density)
footprint TSSOP20_L (TSOP, 20-Leads, Body 6.5x4.4mm, Pitch 0.65mm, IPC High Density)
footprint TSSOP20_M (TSOP, 20-Leads, Body 6.5x4.4mm, Pitch 0.65mm, IPC Low Density)
pins: 1 VCCO (power), 2 VBAT (power), 3 TOL (in), 4 ~{CEI}1 (in), 5 ~{CEI}2 (in), 6 NC, 7 A/~{CEI}3 (in), 8 B/~{CEI}4 (in), 9 NC, 10 GND (power), 11 MODE (in), 12 NC, 13 ~{CEO}4 (out), 14 ~{CEO}3 (out), 15 NC, 16 ~{CEO}2 (out), 17 ~{CEO}1 (out), 18 ~{BW} (oc), 19 ~{RST} (oc), 20 VCCI (power)

## DS1321S
designator U?
Flexible Nonvolatile Controller with Lithium Battery Monitor; Published: 13-Oct-2000; LatestRevisionDate: 13-Apr-2006; LatestRevisionNote: IPC-7351 Footprint Added.; DatasheetVersion: 25-Feb-1998; PackageVersion: 1999; PackageReference: SOIC16N; Publisher: Altium Limited; PackageDescription: 16-Pin Small Outline Integrated Circuit 1.27 mm Pitch; Code_IPC: SOIC127P600-16; ComponentLink1Description: Manufacturer Link; ComponentLink1URL: http://www.maxim-ic.com/; ComponentLink2Description: Datasheet; ComponentLink2URL: http://pdfserv.maxim-ic.com/en/ds/DS1321.pdf
footprint SOIC16N_N (SOIC, 16-Leads, Body 9.9x3.9mm, Pitch 1.27mm, IPC Medium Density)
footprint SOIC16N_L (SOIC, 16-Leads, Body 9.9x3.9mm, Pitch 1.27mm, IPC High Density)
footprint SOIC16N_M (SOIC, 16-Leads, Body 9.9x3.9mm, Pitch 1.27mm, IPC Low Density)
pins: 1 VCCO (power), 2 VBAT (power), 3 TOL (in), 4 ~{CEI}1 (in), 5 ~{CEI}2 (in), 6 A/~{CEI}3 (in), 7 B/~{CEI}4 (in), 8 GND (power), 9 MODE (in), 10 ~{CEO}4 (out), 11 ~{CEO}3 (out), 12 ~{CEO}2 (out), 13 ~{CEO}1 (out), 14 ~{BW} (oc), 15 ~{RST} (oc), 16 VCCI (power)

## DS1610
designator U?
Partitioned Nonvolatile Controller; Published: 13-Oct-2000; LatestRevisionDate: 17-Jul-2002; LatestRevisionNote: Re-released for DXP Platform.; DatasheetVersion: 25-Feb-1998; PackageVersion: 1999; PackageReference: DIP16; Publisher: Altium Limited; PackageDescription: DIP, 16-Pin, Row Spacing 7.62 mm, Pitch 2.54 mm; ComponentLink1Description: Manufacturer Link; ComponentLink1URL: http://www.maxim-ic.com/; ComponentLink2Description: Datasheet; ComponentLink2URL: http://pdfserv.maxim-ic.com/en/ds/DS1610.pdf
footprint DIP16 (DIP, 16-Leads, Row Spacing 7.62mm, Pitch 2.54mm, Body 19.31x6.35mm)
pins: 1 AW (in), 2 VCCO (power), 3 AX (in), 4 VBAT1 (power), 5 AY (in), 6 TOL (in), 7 ~{DIS}, 8 GND (power), 9 ~{CEI} (in), 10 ~{WEI} (in), 11 ~{CEO} (out), 12 ~{WEO} (out), 13 VBAT2 (power), 14 AZ (in), 15 VCCI (power), 16 ~{PFO} (out)

## DS1610N
designator U?
Partitioned Nonvolatile Controller; Published: 13-Oct-2000; LatestRevisionDate: 17-Jul-2002; LatestRevisionNote: Re-released for DXP Platform.; DatasheetVersion: 13-Jan-1992; PackageVersion: 1999; PackageReference: DIP16; Publisher: Altium Limited; PackageDescription: DIP, 16-Pin, Row Spacing 7.62 mm, Pitch 2.54 mm; ComponentLink1Description: Manufacturer Link; ComponentLink1URL: http://www.maxim-ic.com/; ComponentLink2Description: Datasheet; ComponentLink2URL: http://pdfserv.maxim-ic.com/en/ds/DS1610_C.pdf
footprint DIP16 (DIP, 16-Leads, Row Spacing 7.62mm, Pitch 2.54mm, Body 19.31x6.35mm)
pins: 1 AW (in), 2 VCCO (power), 3 AX (in), 4 VBAT1 (power), 5 AY (in), 6 TOL (in), 7 ~{DIS}, 8 GND (power), 9 ~{CEI} (in), 10 ~{WEI} (in), 11 ~{CEO} (out), 12 ~{WEO} (out), 13 VBAT2 (power), 14 AZ (in), 15 VCCI (power), 16 ~{PFO} (out)

## DS1610S
designator U?
Partitioned Nonvolatile Controller; Published: 13-Oct-2000; LatestRevisionDate: 13-Apr-2006; LatestRevisionNote: IPC-7351 Footprint Added.; DatasheetVersion: 25-Feb-1998; PackageVersion: 1999; PackageReference: SOIC16W; Publisher: Altium Limited; PackageDescription: 16-Pin Small Outline Integrated Circuit 1.27 mm Pitch; ComponentLink1Description: Manufacturer Link; ComponentLink1URL: http://www.maxim-ic.com/; ComponentLink2Description: Datasheet; ComponentLink2URL: http://pdfserv.maxim-ic.com/en/ds/DS1610.pdf
footprint SOIC16W_N (SOIC, 16-Leads, Body 10.3x7.5mm, Pitch 1.27mm, IPC Medium Density)
footprint SOIC16W_L (SOIC, 16-Leads, Body 10.3x7.5mm, Pitch 1.27mm, IPC High Density)
footprint SOIC16W_M (SOIC, 16-Leads, Body 10.3x7.5mm, Pitch 1.27mm, IPC Low Density)
pins: 1 AW (in), 2 VCCO (power), 3 AX (in), 4 VBAT1 (power), 5 AY (in), 6 TOL (in), 7 ~{DIS}, 8 GND (power), 9 ~{CEI} (in), 10 ~{WEI} (in), 11 ~{CEO} (out), 12 ~{WEO} (out), 13 VBAT2 (power), 14 AZ (in), 15 VCCI (power), 16 ~{PFO} (out)

## DS1610SN
designator U?
Partitioned Nonvolatile Controller; Published: 13-Oct-2000; LatestRevisionDate: 13-Apr-2006; LatestRevisionNote: IPC-7351 Footprint Added.; DatasheetVersion: 13-Jan-1992; PackageVersion: 1999; PackageReference: SOIC16W; Publisher: Altium Limited; PackageDescription: 16-Pin Small Outline Integrated Circuit 1.27 mm Pitch; ComponentLink1Description: Manufacturer Link; ComponentLink1URL: http://www.maxim-ic.com/; ComponentLink2Description: Datasheet; ComponentLink2URL: http://pdfserv.maxim-ic.com/en/ds/DS1610_C.pdf
footprint SOIC16W_N (SOIC, 16-Leads, Body 10.3x7.5mm, Pitch 1.27mm, IPC Medium Density)
footprint SOIC16W_L (SOIC, 16-Leads, Body 10.3x7.5mm, Pitch 1.27mm, IPC High Density)
footprint SOIC16W_M (SOIC, 16-Leads, Body 10.3x7.5mm, Pitch 1.27mm, IPC Low Density)
pins: 1 AW (in), 2 VCCO (power), 3 AX (in), 4 VBAT1 (power), 5 AY (in), 6 TOL (in), 7 ~{DIS}, 8 GND (power), 9 ~{CEI} (in), 10 ~{WEI} (in), 11 ~{CEO} (out), 12 ~{WEO} (out), 13 VBAT2 (power), 14 AZ (in), 15 VCCI (power), 16 ~{PFO} (out)

## DS1613C
designator U?
Partitionable 256K Smart-Socket; Published: 13-Oct-2000; LatestRevisionDate: 17-Jul-2002; LatestRevisionNote: Re-released for DXP Platform.; DatasheetVersion: 25-Feb-1998; PackageVersion: Feb-1998; PackageReference: ISDIP28B; Publisher: Altium Limited; PackageDescription: DIP; 28 Rectangular Pins; Row Space 15.24 mm; Pitch 2.54 mm; ComponentLink1Description: Manufacturer Link; ComponentLink1URL: http://www.maxim-ic.com/
footprint ISDIP28B (DIP; 28 Rectangular Pins; Row Space 15.24 mm; Pitch 2.54 mm)
pins: 1 A14 (in), 2 A12 (in), 3, 4, 5, 6, 7, 8, 9, 10, 11, 12, 13, 14 GND (power), 15, 16, 17, 18, 19, 20 ~{CE} (in), 21, 22, 23 A11 (in), 24, 25, 26 A13 (in), 27 ~{WE} (in), 28 VCC (power)